# Altium integrated library Resistor_0402.IntLib: 1 symbol
Pins are listed as number, name and electrical type; pins without a type are passive.

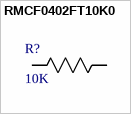
[diagram p0: symbol RMCF0402FT10K0]

## RMCF0402FT10K0
designator R?, comment 10K
No Description Available; Mfr_Name: Stackpole International
footprint R0402 (Footprint not found)
pins: 1, 2